# EAGLE library part HC-05BTM (library kpb)
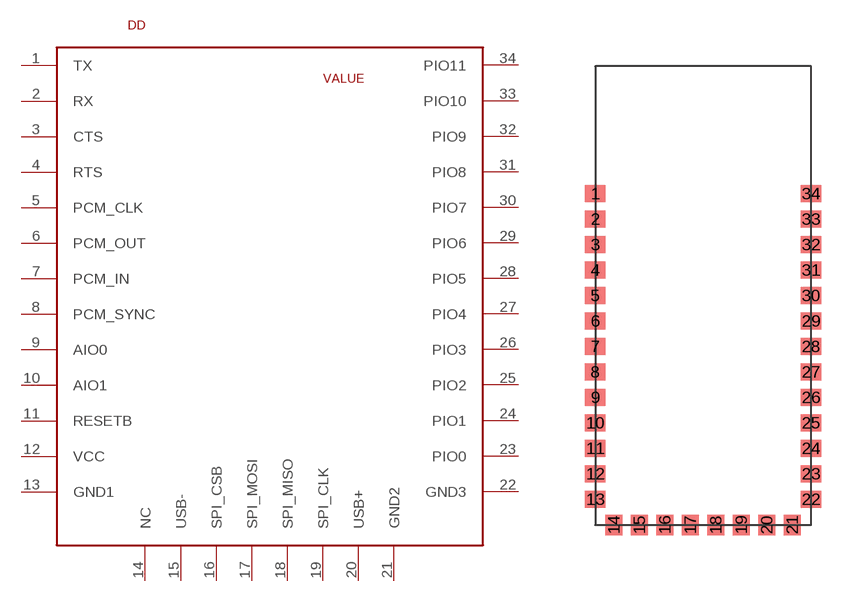
[diagram p0: symbol with the pads of HC-05BTM; footprint HC-05BTM]

Designator prefix DD

## HC-05BTM  [HC-05BTM]
1  TX
2  RX
3  CTS
4  RTS
5  PCM_CLK
6  PCM_OUT
7  PCM_IN
8  PCM_SYNC
9  AIO0
10  AIO1
11  RESETB
12  VCC
13  GND1
14  NC
15  USB-
16  SPI_CSB
17  SPI_MOSI
18  SPI_MISO
19  SPI_CLK
20  USB+
21  GND2
22  GND3
23  PIO0
24  PIO1
25  PIO2
26  PIO3
27  PIO4
28  PIO5
29  PIO6
30  PIO7
31  PIO8
32  PIO9
33  PIO10
34  PIO11

## Footprint HC-05BTM (pad centres in mm)
smd 1.2 x 1: 1 -6.35,6; 2 -6.35,4.5; 3 -6.35,3; 4 -6.35,1.5; 5 -6.35,0; 6 -6.35,-1.5; 7 -6.35,-3; 8 -6.35,-4.5; 9 -6.35,-6; 10 -6.35,-7.5; 11 -6.35,-9; 12 -6.35,-10.5; 13 -6.35,-12; 22 6.35,-12; 23 6.35,-10.5; 24 6.35,-9; 25 6.35,-7.5; 26 6.35,-6; 27 6.35,-4.5; 28 6.35,-3; 29 6.35,-1.5; 30 6.35,0; 31 6.35,1.5; 32 6.35,3; 33 6.35,4.5; 34 6.35,6
smd 1 x 1.2: 14 -5.25,-13.5; 15 -3.75,-13.5; 16 -2.25,-13.5; 17 -0.75,-13.5; 18 0.75,-13.5; 19 2.25,-13.5; 20 3.75,-13.5; 21 5.25,-13.5